# EAGLE library part 1-1734028-1 (library SamacSys_Parts)
USB Connectors Source: Datasheet <https://componentsearchengine.com/Datasheets/1/1-1734028-1.pdf>
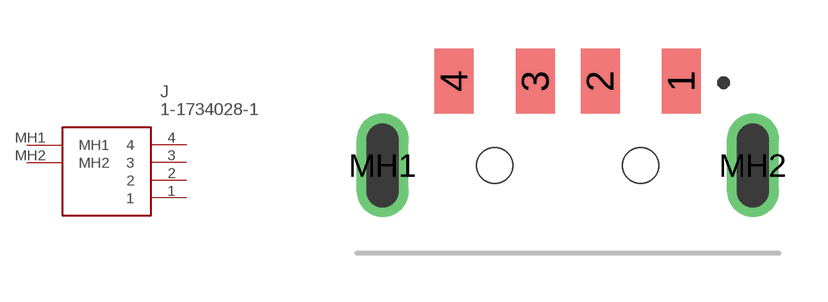
[diagram p11: symbol with the pads of 117340281; footprint 117340281]

Designator prefix J

## 1-1734028-1 (DESCRIPTION: USB Connectors; HEIGHT: 4.7mm; MANUFACTURER_NAME: TE Connectivity; MANUFACTURER_PART_NUMBER: 1-1734028-1; MOUSER_PART_NUMBER: 571-1-1734028-1; MOUSER_PRICE-STOCK: https://www.mouser.co.uk/ProductDetail/TE-Connectivity/1-1734028-1?qs=28ld6GkVMjS2qvjYvVkH5Q%3D%3D)  [117340281]
1  1
2  2
3  3
4  4
MH1  MH1
MH2  MH2

## Footprint 117340281 (pad centres in mm)
1-1734028-1-3
smd 1.2 x 2: 1 3.5,9.85; 2 1,9.85; 3 -1,9.85; 4 -3.5,9.85
drill 1 pad 1.6 long: MH1 -5.7,7.25; MH2 5.7,7.25
hole 1.1 at -2.25,7.25
hole 1.1 at 2.25,7.25